# Altium schematic symbol library 142-0701-301.SchLib: 2 symbols
Pins are listed as number, name and electrical type; pins without a type are passive.

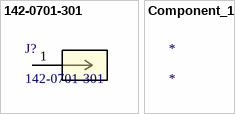
[diagram p0: symbols 142-0701-301 to Component_1]

## 142-0701-301
designator J?
No Description Available; Mfr_Name: Cinch Connectivity Solutions; Copyright: Copyright (C) 2022 Ultra Librarian. All rights reserved.; Manufacturer_Part_Number: 142-0701-301; RefDes: RefDes; Type: DEV
footprint CONN_142-0701-301_CIN
pins: 1

## Component_1
designator *